# Altium schematic symbol library WRIS-KWKB.SchLib: 19 symbols
Pins are listed as number, name and electrical type; pins without a type are passive.

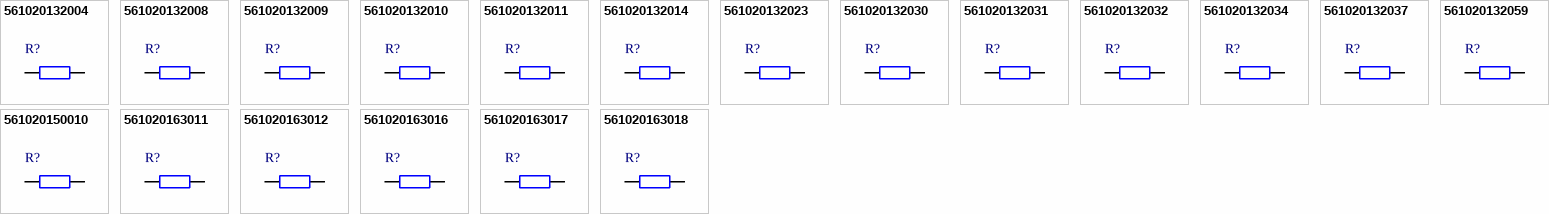
[diagram p0: symbols 561020132004 to 561020163018]

## 561020132004
designator R?, comment 47Ω  (value not drawn)
WRIS-KWKB Thick Film Resistor, SMT, size 0612, 0.75W, 47Ω, +/-5%; Manufacturer Part Number: 561020132004; Manufacturer: Wurth Elektronik; Case/Size Code: 0612; Rated Current: 126.3A; Temperature Coefficient of Resistance: +/-200ppm/°C; Category: Thick Film Resistors; Match Code: WRIS-KWKB; ComponentLink1Description: Website Link; ComponentLink1URL: https://www.we-online.com/redexpert/article/561020132004?ad; ComponentLink2Description: Datasheet Link; ComponentLink2URL: https://www.we-online.com/redexpert/spec/561020132004?ad; Mount: Surface Mount; Min Operating Temperature: -55°C; Max Operating Temperature: 155°C; Packaging: Tape and Reel; Length: 3.2mm; Width: 1.6mm; Height: 0.55mm; Rated Power: 0.75W; Resistance: 47Ω; Resistance Tolerance: +/-5%
footprint WRIS-KWKB_0612_L3.2W1.6H0.55
pins: 1, 2

## 561020132008
designator R?, comment 100Ω  (value not drawn)
WRIS-KWKB Thick Film Resistor, SMT, size 0612, 0.75W, 100Ω, +/-1%; Manufacturer Part Number: 561020132008; Manufacturer: Wurth Elektronik; Case/Size Code: 0612; Rated Current: 86.6A; Temperature Coefficient of Resistance: +/-200ppm/°C; Category: Thick Film Resistors; Match Code: WRIS-KWKB; ComponentLink1Description: Website Link; ComponentLink1URL: https://www.we-online.com/redexpert/article/561020132008?ad; ComponentLink2Description: Datasheet Link; ComponentLink2URL: https://www.we-online.com/redexpert/spec/561020132008?ad; Mount: Surface Mount; Min Operating Temperature: -55°C; Max Operating Temperature: 155°C; Packaging: Tape and Reel; Length: 3.2mm; Width: 1.6mm; Height: 0.55mm; Rated Power: 0.75W; Resistance: 100Ω; Resistance Tolerance: +/-1%
footprint WRIS-KWKB_0612_L3.2W1.6H0.55
pins: 1, 2

## 561020132009
designator R?, comment 100Ω  (value not drawn)
WRIS-KWKB Thick Film Resistor, SMT, size 0612, 0.75W, 100Ω, +/-5%; Manufacturer Part Number: 561020132009; Manufacturer: Wurth Elektronik; Case/Size Code: 0612; Rated Current: 86.6A; Temperature Coefficient of Resistance: +/-200ppm/°C; Category: Thick Film Resistors; Match Code: WRIS-KWKB; ComponentLink1Description: Website Link; ComponentLink1URL: https://www.we-online.com/redexpert/article/561020132009?ad; ComponentLink2Description: Datasheet Link; ComponentLink2URL: https://www.we-online.com/redexpert/spec/561020132009?ad; Mount: Surface Mount; Min Operating Temperature: -55°C; Max Operating Temperature: 155°C; Packaging: Tape and Reel; Length: 3.2mm; Width: 1.6mm; Height: 0.55mm; Rated Power: 0.75W; Resistance: 100Ω; Resistance Tolerance: +/-5%
footprint WRIS-KWKB_0612_L3.2W1.6H0.55
pins: 1, 2

## 561020132010
designator R?, comment 110Ω  (value not drawn)
WRIS-KWKB Thick Film Resistor, SMT, size 0612, 0.75W, 110Ω, +/-5%; Manufacturer Part Number: 561020132010; Manufacturer: Wurth Elektronik; Case/Size Code: 0612; Rated Current: 82.6A; Temperature Coefficient of Resistance: +/-200ppm/°C; Category: Thick Film Resistors; Match Code: WRIS-KWKB; ComponentLink1Description: Website Link; ComponentLink1URL: https://www.we-online.com/redexpert/article/561020132010?ad; ComponentLink2Description: Datasheet Link; ComponentLink2URL: https://www.we-online.com/redexpert/spec/561020132010?ad; Mount: Surface Mount; Min Operating Temperature: -55°C; Max Operating Temperature: 155°C; Packaging: Tape and Reel; Length: 3.2mm; Width: 1.6mm; Height: 0.55mm; Rated Power: 0.75W; Resistance: 110Ω; Resistance Tolerance: +/-5%
footprint WRIS-KWKB_0612_L3.2W1.6H0.55
pins: 1, 2

## 561020132011
designator R?, comment 120Ω  (value not drawn)
WRIS-KWKB Thick Film Resistor, SMT, size 0612, 0.75W, 120Ω, +/-1%; Manufacturer Part Number: 561020132011; Manufacturer: Wurth Elektronik; Case/Size Code: 0612; Rated Current: 79.1A; Temperature Coefficient of Resistance: +/-200ppm/°C; Category: Thick Film Resistors; Match Code: WRIS-KWKB; ComponentLink1Description: Website Link; ComponentLink1URL: https://www.we-online.com/redexpert/article/561020132011?ad; ComponentLink2Description: Datasheet Link; ComponentLink2URL: https://www.we-online.com/redexpert/spec/561020132011?ad; Mount: Surface Mount; Min Operating Temperature: -55°C; Max Operating Temperature: 155°C; Packaging: Tape and Reel; Length: 3.2mm; Width: 1.6mm; Height: 0.55mm; Rated Power: 0.75W; Resistance: 120Ω; Resistance Tolerance: +/-1%
footprint WRIS-KWKB_0612_L3.2W1.6H0.55
pins: 1, 2

## 561020132014
designator R?, comment 240Ω  (value not drawn)
WRIS-KWKB Thick Film Resistor, SMT, size 0612, 0.75W, 240Ω, +/-1%; Manufacturer Part Number: 561020132014; Manufacturer: Wurth Elektronik; Case/Size Code: 0612; Rated Current: 55.9A; Temperature Coefficient of Resistance: +/-200ppm/°C; Category: Thick Film Resistors; Match Code: WRIS-KWKB; ComponentLink1Description: Website Link; ComponentLink1URL: https://www.we-online.com/redexpert/article/561020132014?ad; ComponentLink2Description: Datasheet Link; ComponentLink2URL: https://www.we-online.com/redexpert/spec/561020132014?ad; Mount: Surface Mount; Min Operating Temperature: -55°C; Max Operating Temperature: 155°C; Packaging: Tape and Reel; Length: 3.2mm; Width: 1.6mm; Height: 0.55mm; Rated Power: 0.75W; Resistance: 240Ω; Resistance Tolerance: +/-1%
footprint WRIS-KWKB_0612_L3.2W1.6H0.55
pins: 1, 2

## 561020132023
designator R?, comment 470Ω  (value not drawn)
WRIS-KWKB Thick Film Resistor, SMT, size 0612, 0.75W, 470Ω, +/-5%; Manufacturer Part Number: 561020132023; Manufacturer: Wurth Elektronik; Case/Size Code: 0612; Rated Current: 39.9A; Temperature Coefficient of Resistance: +/-200ppm/°C; Category: Thick Film Resistors; Match Code: WRIS-KWKB; ComponentLink1Description: Website Link; ComponentLink1URL: https://www.we-online.com/redexpert/article/561020132023?ad; ComponentLink2Description: Datasheet Link; ComponentLink2URL: https://www.we-online.com/redexpert/spec/561020132023?ad; Mount: Surface Mount; Min Operating Temperature: -55°C; Max Operating Temperature: 155°C; Packaging: Tape and Reel; Length: 3.2mm; Width: 1.6mm; Height: 0.55mm; Rated Power: 0.75W; Resistance: 470Ω; Resistance Tolerance: +/-5%
footprint WRIS-KWKB_0612_L3.2W1.6H0.55
pins: 1, 2

## 561020132030
designator R?, comment 1.2kΩ  (value not drawn)
WRIS-KWKB Thick Film Resistor, SMT, size 0612, 0.75W, 1.2kΩ, +/-1%; Manufacturer Part Number: 561020132030; Manufacturer: Wurth Elektronik; Case/Size Code: 0612; Rated Current: 25A; Temperature Coefficient of Resistance: +/-200ppm/°C; Category: Thick Film Resistors; Match Code: WRIS-KWKB; ComponentLink1Description: Website Link; ComponentLink1URL: https://www.we-online.com/redexpert/article/561020132030?ad; ComponentLink2Description: Datasheet Link; ComponentLink2URL: https://www.we-online.com/redexpert/spec/561020132030?ad; Mount: Surface Mount; Min Operating Temperature: -55°C; Max Operating Temperature: 155°C; Packaging: Tape and Reel; Length: 3.2mm; Width: 1.6mm; Height: 0.55mm; Rated Power: 0.75W; Resistance: 1.2kΩ; Resistance Tolerance: +/-1%
footprint WRIS-KWKB_0612_L3.2W1.6H0.55
pins: 1, 2

## 561020132031
designator R?, comment 1.5kΩ  (value not drawn)
WRIS-KWKB Thick Film Resistor, SMT, size 0612, 0.75W, 1.5kΩ, +/-1%; Manufacturer Part Number: 561020132031; Manufacturer: Wurth Elektronik; Case/Size Code: 0612; Rated Current: 22.4A; Temperature Coefficient of Resistance: +/-200ppm/°C; Category: Thick Film Resistors; Match Code: WRIS-KWKB; ComponentLink1Description: Website Link; ComponentLink1URL: https://www.we-online.com/redexpert/article/561020132031?ad; ComponentLink2Description: Datasheet Link; ComponentLink2URL: https://www.we-online.com/redexpert/spec/561020132031?ad; Mount: Surface Mount; Min Operating Temperature: -55°C; Max Operating Temperature: 155°C; Packaging: Tape and Reel; Length: 3.2mm; Width: 1.6mm; Height: 0.55mm; Rated Power: 0.75W; Resistance: 1.5kΩ; Resistance Tolerance: +/-1%
footprint WRIS-KWKB_0612_L3.2W1.6H0.55
pins: 1, 2

## 561020132032
designator R?, comment 1.8kΩ  (value not drawn)
WRIS-KWKB Thick Film Resistor, SMT, size 0612, 0.75W, 1.8kΩ, +/-1%; Manufacturer Part Number: 561020132032; Manufacturer: Wurth Elektronik; Case/Size Code: 0612; Rated Current: 20.4A; Temperature Coefficient of Resistance: +/-200ppm/°C; Category: Thick Film Resistors; Match Code: WRIS-KWKB; ComponentLink1Description: Website Link; ComponentLink1URL: https://www.we-online.com/redexpert/article/561020132032?ad; ComponentLink2Description: Datasheet Link; ComponentLink2URL: https://www.we-online.com/redexpert/spec/561020132032?ad; Mount: Surface Mount; Min Operating Temperature: -55°C; Max Operating Temperature: 155°C; Packaging: Tape and Reel; Length: 3.2mm; Width: 1.6mm; Height: 0.55mm; Rated Power: 0.75W; Resistance: 1.8kΩ; Resistance Tolerance: +/-1%
footprint WRIS-KWKB_0612_L3.2W1.6H0.55
pins: 1, 2

## 561020132034
designator R?, comment 2.2kΩ  (value not drawn)
WRIS-KWKB Thick Film Resistor, SMT, size 0612, 0.75W, 2.2kΩ, +/-1%; Manufacturer Part Number: 561020132034; Manufacturer: Wurth Elektronik; Case/Size Code: 0612; Rated Current: 18.5A; Temperature Coefficient of Resistance: +/-200ppm/°C; Category: Thick Film Resistors; Match Code: WRIS-KWKB; ComponentLink1Description: Website Link; ComponentLink1URL: https://www.we-online.com/redexpert/article/561020132034?ad; ComponentLink2Description: Datasheet Link; ComponentLink2URL: https://www.we-online.com/redexpert/spec/561020132034?ad; Mount: Surface Mount; Min Operating Temperature: -55°C; Max Operating Temperature: 155°C; Packaging: Tape and Reel; Length: 3.2mm; Width: 1.6mm; Height: 0.55mm; Rated Power: 0.75W; Resistance: 2.2kΩ; Resistance Tolerance: +/-1%
footprint WRIS-KWKB_0612_L3.2W1.6H0.55
pins: 1, 2

## 561020132037
designator R?, comment 2.7kΩ  (value not drawn)
WRIS-KWKB Thick Film Resistor, SMT, size 0612, 0.75W, 2.7kΩ, +/-1%; Manufacturer Part Number: 561020132037; Manufacturer: Wurth Elektronik; Case/Size Code: 0612; Rated Current: 16.7A; Temperature Coefficient of Resistance: +/-200ppm/°C; Category: Thick Film Resistors; Match Code: WRIS-KWKB; ComponentLink1Description: Website Link; ComponentLink1URL: https://www.we-online.com/redexpert/article/561020132037?ad; ComponentLink2Description: Datasheet Link; ComponentLink2URL: https://www.we-online.com/redexpert/spec/561020132037?ad; Mount: Surface Mount; Min Operating Temperature: -55°C; Max Operating Temperature: 155°C; Packaging: Tape and Reel; Length: 3.2mm; Width: 1.6mm; Height: 0.55mm; Rated Power: 0.75W; Resistance: 2.7kΩ; Resistance Tolerance: +/-1%
footprint WRIS-KWKB_0612_L3.2W1.6H0.55
pins: 1, 2

## 561020132059
designator R?, comment 18kΩ  (value not drawn)
WRIS-KWKB Thick Film Resistor, SMT, size 0612, 0.75W, 18kΩ, +/-1%; Manufacturer Part Number: 561020132059; Manufacturer: Wurth Elektronik; Case/Size Code: 0612; Rated Current: 6.5A; Temperature Coefficient of Resistance: +/-200ppm/°C; Category: Thick Film Resistors; Match Code: WRIS-KWKB; ComponentLink1Description: Website Link; ComponentLink1URL: https://www.we-online.com/redexpert/article/561020132059?ad; ComponentLink2Description: Datasheet Link; ComponentLink2URL: https://www.we-online.com/redexpert/spec/561020132059?ad; Mount: Surface Mount; Min Operating Temperature: -55°C; Max Operating Temperature: 155°C; Packaging: Tape and Reel; Length: 3.2mm; Width: 1.6mm; Height: 0.55mm; Rated Power: 0.75W; Resistance: 18kΩ; Resistance Tolerance: +/-1%
footprint WRIS-KWKB_0612_L3.2W1.6H0.55
pins: 1, 2

## 561020150010
designator R?, comment 270Ω  (value not drawn)
WRIS-KWKB Thick Film Resistor, SMT, size 1020, 1W, 270Ω, +/-1%; Manufacturer Part Number: 561020150010; Manufacturer: Wurth Elektronik; Case/Size Code: 1020; Rated Current: 60.9A; Temperature Coefficient of Resistance: +/-200ppm/°C; Category: Thick Film Resistors; Match Code: WRIS-KWKB; ComponentLink1Description: Website Link; ComponentLink1URL: https://www.we-online.com/redexpert/article/561020150010?ad; ComponentLink2Description: Datasheet Link; ComponentLink2URL: https://www.we-online.com/redexpert/spec/561020150010?ad; Mount: Surface Mount; Min Operating Temperature: -55°C; Max Operating Temperature: 155°C; Packaging: Tape and Reel; Length: 5mm; Width: 2.5mm; Height: 0.55mm; Rated Power: 1W; Resistance: 270Ω; Resistance Tolerance: +/-1%
footprint WRIS-KWKB_1020_L5W2.5H0.55
pins: 1, 2

## 561020163011
designator R?, comment 270Ω  (value not drawn)
WRIS-KWKB Thick Film Resistor, SMT, size 1225, 2W, 270Ω, +/-1%; Manufacturer Part Number: 561020163011; Manufacturer: Wurth Elektronik; Case/Size Code: 1225; Rated Current: 86.1A; Temperature Coefficient of Resistance: +/-200ppm/°C; Category: Thick Film Resistors; Match Code: WRIS-KWKB; ComponentLink1Description: Website Link; ComponentLink1URL: https://www.we-online.com/redexpert/article/561020163011?ad; ComponentLink2Description: Datasheet Link; ComponentLink2URL: https://www.we-online.com/redexpert/spec/561020163011?ad; Mount: Surface Mount; Min Operating Temperature: -55°C; Max Operating Temperature: 155°C; Packaging: Tape and Reel; Length: 6.3mm; Width: 3.2mm; Height: 0.55mm; Rated Power: 2W; Resistance: 270Ω; Resistance Tolerance: +/-1%
footprint WRIS-KWKB_1225_L6.3W3.2H0.55
pins: 1, 2

## 561020163012
designator R?, comment 430Ω  (value not drawn)
WRIS-KWKB Thick Film Resistor, SMT, size 1225, 2W, 430Ω, +/-5%; Manufacturer Part Number: 561020163012; Manufacturer: Wurth Elektronik; Case/Size Code: 1225; Rated Current: 68.2A; Temperature Coefficient of Resistance: +/-200ppm/°C; Category: Thick Film Resistors; Match Code: WRIS-KWKB; ComponentLink1Description: Website Link; ComponentLink1URL: https://www.we-online.com/redexpert/article/561020163012?ad; ComponentLink2Description: Datasheet Link; ComponentLink2URL: https://www.we-online.com/redexpert/spec/561020163012?ad; Mount: Surface Mount; Min Operating Temperature: -55°C; Max Operating Temperature: 155°C; Packaging: Tape and Reel; Length: 6.3mm; Width: 3.2mm; Height: 0.55mm; Rated Power: 2W; Resistance: 430Ω; Resistance Tolerance: +/-5%
footprint WRIS-KWKB_1225_L6.3W3.2H0.55
pins: 1, 2

## 561020163016
designator R?, comment 2.2Ω  (value not drawn)
WRIS-KWKB Thick Film Resistor, SMT, size 1225, 2W, 2.2Ω, +/-1%; Manufacturer Part Number: 561020163016; Manufacturer: Wurth Elektronik; Case/Size Code: 1225; Rated Current: 953.5A; Temperature Coefficient of Resistance: +/-200ppm/°C; Category: Thick Film Resistors; Match Code: WRIS-KWKB; ComponentLink1Description: Website Link; ComponentLink1URL: https://www.we-online.com/redexpert/article/561020163016?ad; ComponentLink2Description: Datasheet Link; ComponentLink2URL: https://www.we-online.com/redexpert/spec/561020163016?ad; Mount: Surface Mount; Min Operating Temperature: -55°C; Max Operating Temperature: 155°C; Packaging: Tape and Reel; Length: 6.3mm; Width: 3.2mm; Height: 0.55mm; Rated Power: 2W; Resistance: 2.2Ω; Resistance Tolerance: +/-1%
footprint WRIS-KWKB_1225_L6.3W3.2H0.55
pins: 1, 2

## 561020163017
designator R?, comment 5.1Ω  (value not drawn)
WRIS-KWKB Thick Film Resistor, SMT, size 1225, 2W, 5.1Ω, +/-1%; Manufacturer Part Number: 561020163017; Manufacturer: Wurth Elektronik; Case/Size Code: 1225; Rated Current: 626.2A; Temperature Coefficient of Resistance: +/-200ppm/°C; Category: Thick Film Resistors; Match Code: WRIS-KWKB; ComponentLink1Description: Website Link; ComponentLink1URL: https://www.we-online.com/redexpert/article/561020163017?ad; ComponentLink2Description: Datasheet Link; ComponentLink2URL: https://www.we-online.com/redexpert/spec/561020163017?ad; Mount: Surface Mount; Min Operating Temperature: -55°C; Max Operating Temperature: 155°C; Packaging: Tape and Reel; Length: 6.3mm; Width: 3.2mm; Height: 0.55mm; Rated Power: 2W; Resistance: 5.1Ω; Resistance Tolerance: +/-1%
footprint WRIS-KWKB_1225_L6.3W3.2H0.55
pins: 1, 2

## 561020163018
designator R?, comment 10Ω  (value not drawn)
WRIS-KWKB Thick Film Resistor, SMT, size 1225, 2W, 10Ω, +/-1%; Manufacturer Part Number: 561020163018; Manufacturer: Wurth Elektronik; Case/Size Code: 1225; Rated Current: 447.2A; Temperature Coefficient of Resistance: +/-200ppm/°C; Category: Thick Film Resistors; Match Code: WRIS-KWKB; ComponentLink1Description: Website Link; ComponentLink1URL: https://www.we-online.com/redexpert/article/561020163018?ad; ComponentLink2Description: Datasheet Link; ComponentLink2URL: https://www.we-online.com/redexpert/spec/561020163018?ad; Mount: Surface Mount; Min Operating Temperature: -55°C; Max Operating Temperature: 155°C; Packaging: Tape and Reel; Length: 6.3mm; Width: 3.2mm; Height: 0.55mm; Rated Power: 2W; Resistance: 10Ω; Resistance Tolerance: +/-1%
footprint WRIS-KWKB_1225_L6.3W3.2H0.55
pins: 1, 2